# Altium schematic symbol library MP1475SGJ-P.SchLib: 1 symbol
Pins are listed as number, name and electrical type; pins without a type are passive.

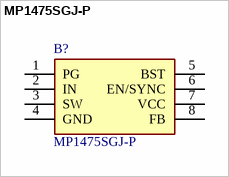
[diagram p0: symbol MP1475SGJ-P]

## MP1475SGJ-P
designator B?
Switching Voltage Regulators 3A 16V 500kHz Synch Step-Down Conv W/PG; Manufacturer_Name: Monolithic Power Systems (MPS); Geometry.Height: 1mm; Mouser Part Number: 946-MP1475SGJ-P; Mouser Price/Stock: https://www.mouser.co.uk/ProductDetail/Monolithic-Power-Systems-MPS/MP1475SGJ-P?qs=FIQZoK1q933LtAjxu26L8w%3D%3D; Manufacturer_Part_Number: MP1475SGJ-P; Datasheet Link: http://media.digikey.com/pdf/Data%20Sheets/Monolithic%20Power%20PDF
footprint SOT65P280X100-8N
pins: 1 PG, 2 IN, 3 SW, 4 GND, 5 BST, 6 EN/SYNC, 7 VCC, 8 FB